# Altium footprint library Power_Integration.PcbLib: 3 footprints
Each footprint in its own frame and in the unit in brackets; x right, y up, seen from the top. Pads: shape width x height; smd on the part's side, far side on the other; paste and mask are expansions set on the pad; w line width, h text height; cw(c..) or ccw(c..) is an arc to the next point about the centre after c.
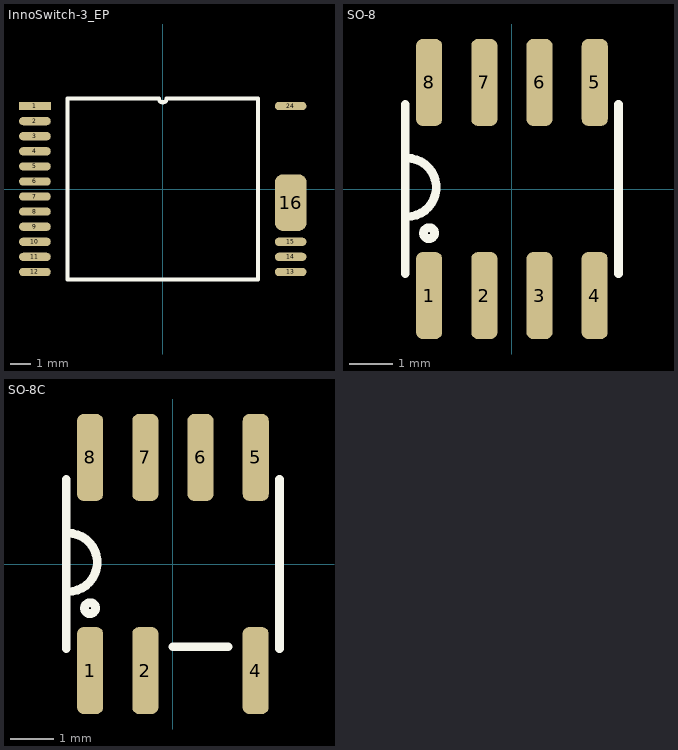
[diagram p0: the footprints below, top view; thin cyan lines are the x and y axes]

## InnoSwitch-3_EP [mm]
pads (17):
  rect 1.58x0.41 smd: 1(-6.362,4.125)
  oval 1.58x0.41 smd: 2(-6.362,3.375) 3(-6.362,2.625) 4(-6.362,1.875) 5(-6.362,1.125) 6(-6.362,0.375) 7(-6.362,-0.375) 8(-6.362,-1.125) 9(-6.362,-1.875) 10(-6.362,-2.625) 11(-6.362,-3.375) 12(-6.362,-4.125) 13(6.358,-4.125) 14(6.358,-3.375) 15(6.358,-2.625) 24(6.358,4.125)
  rrect50% 1.58x2.81 smd: 16(6.363,-0.675)
Top Overlay:
  lines w0.2: -4.738,-4.5 -4.738,4.5 -0.19,4.5 ccw(c-0.002,4.5) 0.185,4.5 4.733,4.5 4.733,-4.5 -4.738,-4.5
3D body: height 1.46, standoff 0, extent -6.712,-4.735 6.708,4.685

## SO-8 [mm] "SO-8"
height 1.76
pads (8):
  rrect50% 0.6x2 smd: 1(-1.905,-2.45) 2(-0.635,-2.45) 3(0.635,-2.45) 4(1.903,-2.45) 5(1.905,2.45) 6(0.635,2.45) 7(-0.635,2.45) 8(-1.905,2.45)
Top Overlay:
  circle w0.2: c-1.905,-1.016 r0.127
  lines w0.2: -2.45,-1.95 -2.45,1.95 ; -2.413,-0.635 ccw(c-2.413,0.037) -2.413,0.709 ; 2.45,-1.95 2.45,1.95
3D body: height 1.45, standoff 0, extent -2.464,-2.927 2.438,2.851

## SO-8C [mm] "SO-8C"
height 1.75
pads (7):
  rrect50% 0.6x2 smd: 1(-1.905,-2.45) 2(-0.635,-2.45) 4(1.903,-2.45) 5(1.905,2.45) 6(0.635,2.45) 7(-0.635,2.45) 8(-1.905,2.45)
Top Overlay:
  circle w0.2: c-1.905,-1.016 r0.127
  lines w0.2: -2.45,-1.95 -2.45,1.95 ; -2.413,-0.635 ccw(c-2.413,0.037) -2.413,0.709 ; 0,-1.905 1.27,-1.905 ; 2.45,-1.95 2.45,1.95
3D body: height 1.45, standoff 0, extent -2.451,-2.857 2.451,2.921